# Altium schematic symbol library Resistors_HP.SchLib: 114 symbols
Pins are listed as number, name and electrical type; pins without a type are passive.

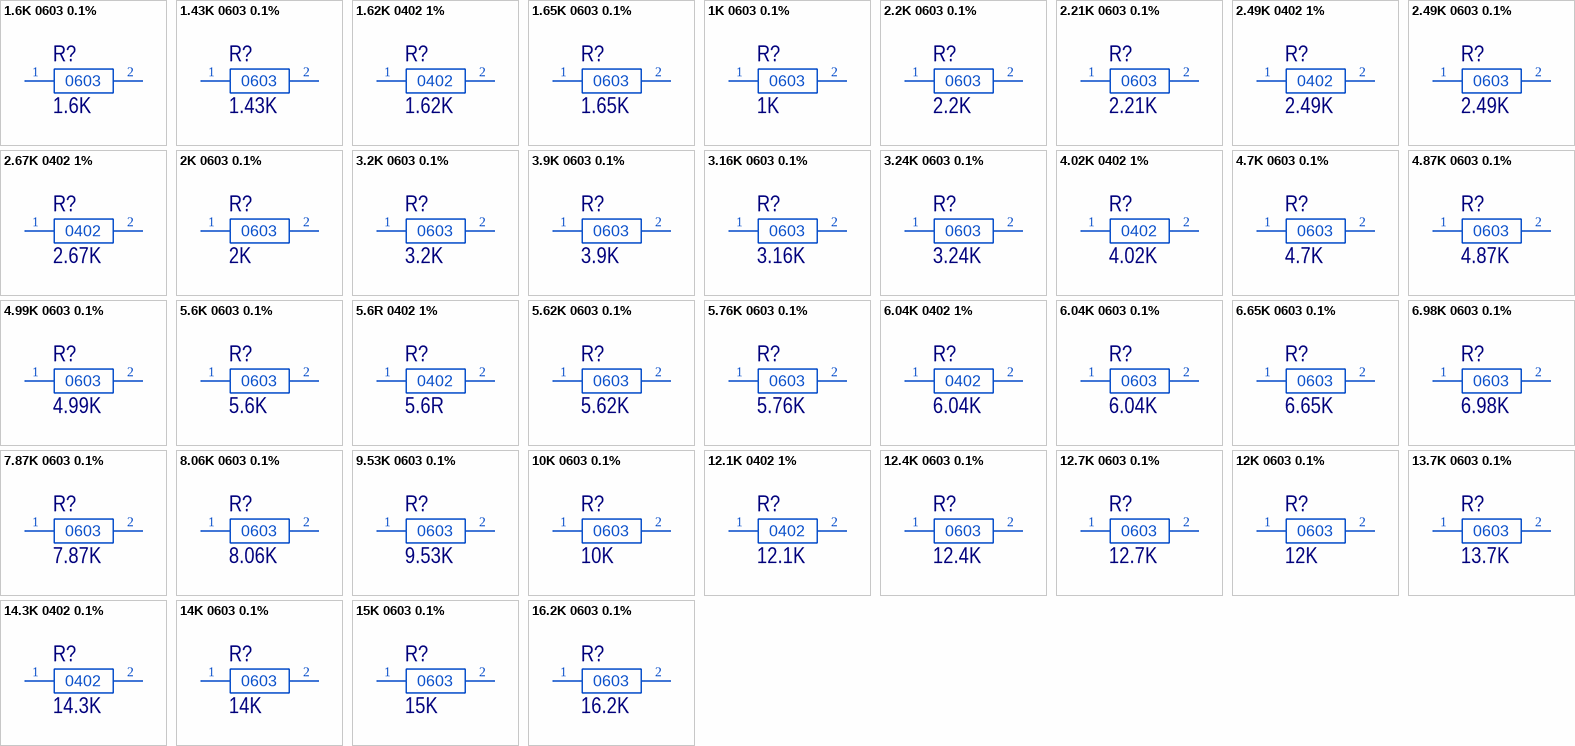
[diagram p0: symbols 1.6K 0603 0.1% to 16.2K 0603 0.1%]

## 1.6K 0603 0.1%
designator R?, comment 1.6K
RES 0603 1K6 0.1% 0.1W 25PPMK; PartNumber: ERA3AEB162V; Manufacturer: Panasonic; Voltage: 75 V; Temperature Coefficient: ± 25 ppm/°C; Marking: 162; Power Dissipation: 100 mW; ItemType: Resistor; ItemSubType: 0603; Note: Замена для RT0603FRE071K6L; Value: 1.6K; Tolerance: ± 0.1 %; Type: Thin Film; Mounting: SMD
footprint R0603HP_162 (SMD060316X08MM)
pins: 1, 2

## 1.43K 0603 0.1%
designator R?, comment 1.43K
RES 0603 1K43 0.1% 0.1W 25PPMK; PartNumber: ERA3AEB1431V; Manufacturer: Panasonic; Voltage: 75 V; Temperature Coefficient: ± 25 ppm/°C; Marking: 16B; Power Dissipation: 100 mW; ItemType: Resistor; ItemSubType: 0603; Note: Замена для RT0603FRE071K43L; Value: 1.43K; Tolerance: ± 0.1 %; Type: Thin Film; Mounting: SMD
footprint R0603HP_16B (SMD060316X08MM)
pins: 1, 2

## 1.62K 0402 1%
designator R?, comment 1.62K
RES 0402 1K62 1% 0.0625W 25PPMK; PartNumber: RT0402FRE071K62L; Manufacturer: Yageo; Voltage: 50 V; Temperature Coefficient: ± 50 ppm/°C; Power Dissipation: 62.5 mW; ItemType: Resistor; ItemSubType: 0402; Value: 1.62K; Tolerance: ± 1 %; Type: Thin Film; Mounting: SMD
footprint R0402HP (SMD040210X05MM)
footprint R0402HP_0.8 (SMD040210X05MM for BGA with 0.8mm pitch)
pins: 1, 2

## 1.65K 0603 0.1%
designator R?, comment 1.65K
RES 0603 1K65 0.1% 0.1W 25PPMK; PartNumber: ERA3AEB1651V; Manufacturer: Panasonic; Voltage: 75 V; Temperature Coefficient: ± 25 ppm/°C; Marking: 22B; Power Dissipation: 100 mW; ItemType: Resistor; ItemSubType: 0603; Note: Замена для RT0603FRE071K65L; Value: 1.65K; Tolerance: ± 0.1 %; Type: Thin Film; Mounting: SMD
footprint R0603HP_22B (SMD060316X08MM)
pins: 1, 2

## 1K 0603 0.1%
designator R?, comment 1K
RES 0603 1K 0.1% 0.1W 25PPMK; PartNumber: ERA3AEB102V; Manufacturer: Panasonic; AltManufacturer1: Viking; Voltage: 75 V; Temperature Coefficient: ± 25 ppm/°C; Marking: 01B; Alternative1: ARG03BTC1001; Power Dissipation: 100 mW; ItemType: Resistor; ItemSubType: 0603; Note: Замена для RT0603FRE071KL; Value: 1K; Tolerance: ± 0.1 %; Type: Thin Film; Mounting: SMD
footprint R0603HP_01B (SMD060316X08MM)
pins: 1, 2

## 2.2K 0603 0.1%
designator R?, comment 2.2K
RES 0603 2K2 0.1% 0.1W 25PPMK; PartNumber: ERA3AEB222V; Manufacturer: Panasonic; Voltage: 75 V; Temperature Coefficient: ± 25 ppm/°C; Marking: 222; Power Dissipation: 100 mW; ItemType: Resistor; ItemSubType: 0603; Note: Замена для RT0603FRE072K2L; Value: 2.2K; Tolerance: ± 0.1 %; Type: Thin Film; Mounting: SMD
footprint R0603HP_222 (SMD060316X08MM)
pins: 1, 2

## 2.21K 0603 0.1%
designator R?, comment 2.21K
RES 0603 2K21 0.1% 0.1W 25PPMK; PartNumber: ERA3AEB2211V; Manufacturer: Panasonic; Voltage: 75 V; Temperature Coefficient: ± 25 ppm/°C; Marking: 34B; Power Dissipation: 100 mW; ItemType: Resistor; ItemSubType: 0603; Note: Замена для RT0603FRE072K21L; Value: 2.21K; Tolerance: ± 0.1 %; Type: Thin Film; Mounting: SMD
footprint R0603HP_34B (SMD060316X08MM)
pins: 1, 2

## 2.49K 0402 1%
designator R?, comment 2.49K
RES 0402 2K49 1% 0.0625W 25PPMK; PartNumber: RT0402FRE072K49L; Manufacturer: Yageo; Voltage: 50 V; Temperature Coefficient: ± 50 ppm/°C; Power Dissipation: 62.5 mW; ItemType: Resistor; ItemSubType: 0402; Value: 2.49K; Tolerance: ± 1 %; Type: Thin Film; Mounting: SMD
footprint R0402HP (SMD040210X05MM)
footprint R0402HP_0.8 (SMD040210X05MM for BGA with 0.8mm pitch)
pins: 1, 2

## 2.49K 0603 0.1%
designator R?, comment 2.49K
RES 0603 2K49 0.1% 0.1W 25PPMK; PartNumber: ERA3AEB2491V; Manufacturer: Panasonic; Voltage: 75 V; Temperature Coefficient: ± 25 ppm/°C; Marking: 39B; Power Dissipation: 100 mW; ItemType: Resistor; ItemSubType: 0603; Note: Замена для RT0603FRE072K49L; Value: 2.49K; Tolerance: ± 0.1 %; Type: Thin Film; Mounting: SMD
footprint R0603HP_39B (SMD060316X08MM)
pins: 1, 2

## 2.67K 0402 1%
designator R?, comment 2.67K
RES 0402 2K67 1% 0.0625W 25PPMK; PartNumber: RT0402FRE072K67L; Manufacturer: Yageo; Voltage: 50 V; Temperature Coefficient: ± 50 ppm/°C; Power Dissipation: 62.5 mW; ItemType: Resistor; ItemSubType: 0402; Value: 2.67K; Tolerance: ± 1 %; Type: Thin Film; Mounting: SMD
footprint R0402HP (SMD040210X05MM)
footprint R0402HP_0.8 (SMD040210X05MM for BGA with 0.8mm pitch)
pins: 1, 2

## 2K 0603 0.1%
designator R?, comment 2K
RES 0603 2K 0.1% 0.1W 25PPMK; PartNumber: ERA3AEB202V; Manufacturer: Panasonic; AltManufacturer1: Viking; Voltage: 75 V; Temperature Coefficient: ± 25 ppm/°C; Marking: 30B; Alternative1: ARG03BTC2001; Power Dissipation: 100 mW; ItemType: Resistor; ItemSubType: 0603; Note: Замена для RT0603FRE072KL; Value: 2K; Tolerance: ± 0.1 %; Type: Thin Film; Mounting: SMD
footprint R0603HP_30B (SMD060316X08MM)
pins: 1, 2

## 3.2K 0603 0.1%
designator R?, comment 3.2K
RES 0603 3K2 0.1% 0.1W 25PPMK; PartNumber: TNPW06033K20BEEA; Manufacturer: Vishay; Voltage: 75 V; Temperature Coefficient: ± 25 ppm/°C; Marking: 3201; Power Dissipation: 210 mW; ItemType: Resistor; ItemSubType: 0603; Value: 3.2K; Tolerance: ± 0.1 %; Type: Thin Film; Mounting: SMD
footprint R0603HP_3201 (SMD060316X08MM)
pins: 1, 2

## 3.9K 0603 0.1%
designator R?, comment 3.9K
RES 0603 3K9 0.1% 0.1W 25PPMK; PartNumber: ERA3AEB392V; Manufacturer: Panasonic; Voltage: 75 V; Temperature Coefficient: ± 25 ppm/°C; Marking: 392; Power Dissipation: 100 mW; ItemType: Resistor; ItemSubType: 0603; Note: Замена для RT0603FRE073K9L; Value: 3.9K; Tolerance: ± 0.1 %; Type: Thin Film; Mounting: SMD
footprint R0603HP_392 (SMD060316X08MM)
pins: 1, 2

## 3.16K 0603 0.1%
designator R?, comment 3.16K
RES 0603 3K16 0.1% 0.1W 25PPMK; PartNumber: ERA3AEB3161V; Manufacturer: Panasonic; Voltage: 75 V; Temperature Coefficient: ± 25 ppm/°C; Marking: 49B; Power Dissipation: 100 mW; ItemType: Resistor; ItemSubType: 0603; Note: Замена для RT0603FRE073K16L; Value: 3.16K; Tolerance: ± 0.1 %; Type: Thin Film; Mounting: SMD
footprint R0603HP_49B (SMD060316X08MM)
pins: 1, 2

## 3.24K 0603 0.1%
designator R?, comment 3.24K
RES 0603 3K24 0.1% 0.1W 25PPMK; PartNumber: ERA3AEB3241V; Manufacturer: Panasonic; Voltage: 75 V; Temperature Coefficient: ± 25 ppm/°C; Marking: 50B; Power Dissipation: 100 mW; ItemType: Resistor; ItemSubType: 0603; Note: Замена для RT0603FRE073K24L; Value: 3.24K; Tolerance: ± 0.1 %; Type: Thin Film; Mounting: SMD
footprint R0603HP_50B (SMD060316X08MM)
pins: 1, 2

## 4.02K 0402 1%
designator R?, comment 4.02K
RES 0402 4K02 1% 0.0625W 25PPMK; PartNumber: RT0402FRE074K02L; Manufacturer: Yageo; Voltage: 50 V; Temperature Coefficient: ± 50 ppm/°C; Power Dissipation: 62.5 mW; ItemType: Resistor; ItemSubType: 0402; Value: 4.02K; Tolerance: ± 1 %; Type: Thin Film; Mounting: SMD
footprint R0402HP (SMD040210X05MM)
footprint R0402HP_0.8 (SMD040210X05MM for BGA with 0.8mm pitch)
pins: 1, 2

## 4.7K 0603 0.1%
designator R?, comment 4.7K
RES 0603 4K7 0.1% 0.1W 25PPMK; PartNumber: ERA3AEB472V; Manufacturer: Panasonic; Voltage: 75 V; Temperature Coefficient: ± 25 ppm/°C; Marking: 472; Power Dissipation: 100 mW; ItemType: Resistor; ItemSubType: 0603; Note: Замена для RT0603FRE074K7L; Value: 4.7K; Tolerance: ± 0.1 %; Type: Thin Film; Mounting: SMD
footprint R0603HP_472 (SMD060316X08MM)
pins: 1, 2

## 4.87K 0603 0.1%
designator R?, comment 4.87K
RES 0603 4K87 0.1% 0.1W 25PPMK; PartNumber: ERA3AEB4871V; Manufacturer: Panasonic; Voltage: 75 V; Temperature Coefficient: ± 25 ppm/°C; Marking: 67B; Power Dissipation: 100 mW; ItemType: Resistor; ItemSubType: 0603; Note: Замена для RT0603FRE074K87L; Value: 4.87K; Tolerance: ± 0.1 %; Type: Thin Film; Mounting: SMD
footprint R0603HP_67B (SMD060316X08MM)
pins: 1, 2

## 4.99K 0603 0.1%
designator R?, comment 4.99K
RES 0603 4K99 0.1% 0.1W 25PPMK; PartNumber: ERA3AEB4991V; Manufacturer: Panasonic; Voltage: 75 V; Temperature Coefficient: ± 25 ppm/°C; Marking: 68B; Power Dissipation: 100 mW; ItemType: Resistor; ItemSubType: 0603; Note: Замена для RT0603FRE074K99L; Value: 4.99K; Tolerance: ± 0.1 %; Type: Thin Film; Mounting: SMD
footprint R0603HP_68B (SMD060316X08MM)
pins: 1, 2

## 5.6K 0603 0.1%
designator R?, comment 5.6K
RES 0603 5K6 0.1% 0.1W 25PPMK; PartNumber: ERA3AEB562V; Manufacturer: Panasonic; Voltage: 75 V; Temperature Coefficient: ± 25 ppm/°C; Marking: 562; Power Dissipation: 100 mW; ItemType: Resistor; ItemSubType: 0603; Note: Замена для RT0603FRE075K6L; Value: 5.6K; Tolerance: ± 0.1 %; Type: Thin Film; Mounting: SMD
footprint R0603HP_562 (SMD060316X08MM)
pins: 1, 2

## 5.6R 0402 1%
designator R?, comment 5.6R
RES 0402 5R6 1% 0.0625W 25PPMK; PartNumber: RT0402FRE075R6L; Manufacturer: Yageo; Voltage: 50 V; Temperature Coefficient: ± 50 ppm/°C; Power Dissipation: 62.5 mW; ItemType: Resistor; ItemSubType: 0402; Value: 5.6R; Tolerance: ± 1 %; Type: Thin Film; Mounting: SMD
footprint R0402HP (SMD040210X05MM)
footprint R0402HP_0.8 (SMD040210X05MM for BGA with 0.8mm pitch)
pins: 1, 2

## 5.62K 0603 0.1%
designator R?, comment 5.62K
RES 0603 5K62 0.1% 0.1W 25PPMK; PartNumber: ERA3AEB5621V; Manufacturer: Panasonic; Voltage: 75 V; Temperature Coefficient: ± 25 ppm/°C; Marking: 73B; Power Dissipation: 100 mW; ItemType: Resistor; ItemSubType: 0603; Note: Замена для RT0603FRE075K62L; Value: 5.62K; Tolerance: ± 0.1 %; Type: Thin Film; Mounting: SMD
footprint R0603HP_73B (SMD060316X08MM)
pins: 1, 2

## 5.76K 0603 0.1%
designator R?, comment 5.76K
RES 0603 5K76 0.1% 0.1W 25PPMK; PartNumber: ERA3AEB5761V; Manufacturer: Panasonic; Voltage: 75 V; Temperature Coefficient: ± 25 ppm/°C; Marking: 74B; Power Dissipation: 100 mW; ItemType: Resistor; ItemSubType: 0603; Note: Замена для RT0603FRE075K76L; Value: 5.76K; Tolerance: ± 0.1 %; Type: Thin Film; Mounting: SMD
footprint R0603HP_74B (SMD060316X08MM)
pins: 1, 2

## 6.04K 0402 1%
designator R?, comment 6.04K
RES 0402 6K04 1% 0.0625W 25PPMK; PartNumber: RT0402FRE076K04L; Manufacturer: Yageo; Voltage: 50 V; Temperature Coefficient: ± 50 ppm/°C; Power Dissipation: 62.5 mW; ItemType: Resistor; ItemSubType: 0402; Value: 6.04K; Tolerance: ± 1 %; Type: Thin Film; Mounting: SMD
footprint R0402HP (SMD040210X05MM)
footprint R0402HP_0.8 (SMD040210X05MM for BGA with 0.8mm pitch)
pins: 1, 2

## 6.04K 0603 0.1%
designator R?, comment 6.04K
RES 0603 6K04 0.1% 0.1W 25PPMK; PartNumber: ERA3AEB6041V; Manufacturer: Panasonic; Voltage: 75 V; Temperature Coefficient: ± 25 ppm/°C; Marking: 76B; Power Dissipation: 100 mW; ItemType: Resistor; ItemSubType: 0603; Note: Замена для RT0603FRE076K04L; Value: 6.04K; Tolerance: ± 0.1 %; Type: Thin Film; Mounting: SMD
footprint R0603HP_76B (SMD060316X08MM)
pins: 1, 2

## 6.65K 0603 0.1%
designator R?, comment 6.65K
RES 0603 6K65 0.1% 0.1W 25PPMK; PartNumber: ERA3AEB6651V; Manufacturer: Panasonic; Voltage: 75 V; Temperature Coefficient: ± 25 ppm/°C; Marking: 80B; Power Dissipation: 100 mW; ItemType: Resistor; ItemSubType: 0603; Value: 6.65K; Tolerance: ± 0.1 %; Type: Thin Film; Mounting: SMD
footprint R0603HP_80B (SMD060316X08MM)
pins: 1, 2

## 6.98K 0603 0.1%
designator R?, comment 6.98K
RES 0603 6K98 0.1% 0.1W 25PPMK; PartNumber: ERA3AEB6981V; Manufacturer: Panasonic; Voltage: 75 V; Temperature Coefficient: ± 25 ppm/°C; Marking: 82B; Power Dissipation: 100 mW; ItemType: Resistor; ItemSubType: 0603; Note: Замена для RT0603FRE076K98L; Value: 6.98K; Tolerance: ± 0.1 %; Type: Thin Film; Mounting: SMD
footprint R0603HP_82B (SMD060316X08MM)
pins: 1, 2

## 7.87K 0603 0.1%
designator R?, comment 7.87K
RES 0603 7K87 0.1% 0.1W 25PPMK; PartNumber: ERA3AEB7871V; Manufacturer: Panasonic; Voltage: 75 V; Temperature Coefficient: ± 25 ppm/°C; Marking: 87B; Power Dissipation: 100 mW; ItemType: Resistor; ItemSubType: 0603; Note: Замена для RT0603FRE077K87L; Value: 7.87K; Tolerance: ± 0.1 %; Type: Thin Film; Mounting: SMD
footprint R0603HP_87B (SMD060316X08MM)
pins: 1, 2

## 8.06K 0603 0.1%
designator R?, comment 8.06K
RES 0603 8K06 0.1% 0.1W 25PPMK; PartNumber: ERA3AEB8061V; Manufacturer: Panasonic; Voltage: 75 V; Temperature Coefficient: ± 25 ppm/°C; Marking: 88B; Power Dissipation: 100 mW; ItemType: Resistor; ItemSubType: 0603; Note: Замена для RT0603FRE078K06L; Value: 8.06K; Tolerance: ± 0.1 %; Type: Thin Film; Mounting: SMD
footprint R0603HP_88B (SMD060316X08MM)
pins: 1, 2

## 9.53K 0603 0.1%
designator R?, comment 9.53K
RES 0603 9K53 0.1% 0.1W 25PPMK; PartNumber: ERA3AEB9531V; Manufacturer: Panasonic; Voltage: 75 V; Temperature Coefficient: ± 25 ppm/°C; Marking: 95B; Power Dissipation: 100 mW; ItemType: Resistor; ItemSubType: 0603; Note: Замена для RT0603FRE079K53L; Value: 9.53K; Tolerance: ± 0.1 %; Type: Thin Film; Mounting: SMD
footprint R0603HP_95B (SMD060316X08MM)
pins: 1, 2

## 10K 0603 0.1%
designator R?, comment 10K
RES 0603 10K 0.1% 0.1W 25PPMK; PartNumber: ERA3AEB103V; Manufacturer: Panasonic; Voltage: 75 V; Temperature Coefficient: ± 25 ppm/°C; Marking: 01C; Power Dissipation: 100 mW; ItemType: Resistor; ItemSubType: 0603; Note: Замена для RT0603FRE0710KL; Value: 10K; Tolerance: ± 0.1 %; Type: Thin Film; Mounting: SMD
footprint R0603HP_01C (SMD060316X08MM)
pins: 1, 2

## 12.1K 0402 1%
designator R?, comment 12.1K
RES 0402 12K1 1% 0.0625W 25PPMK; PartNumber: RT0402FRE0712K1L; Manufacturer: Yageo; Voltage: 50 V; Temperature Coefficient: ± 50 ppm/°C; Power Dissipation: 62.5 mW; ItemType: Resistor; ItemSubType: 0402; Value: 12.1K; Tolerance: ± 1 %; Type: Thin Film; Mounting: SMD
footprint R0402HP (SMD040210X05MM)
footprint R0402HP_0.8 (SMD040210X05MM for BGA with 0.8mm pitch)
pins: 1, 2

## 12.4K 0603 0.1%
designator R?, comment 12.4K
RES 0603 12K4 0.1% 0.1W 25PPMK; PartNumber: ERA3AEB1242V; Manufacturer: Panasonic; Voltage: 75 V; Temperature Coefficient: ± 25 ppm/°C; Marking: 10C; Power Dissipation: 100 mW; ItemType: Resistor; ItemSubType: 0603; Note: Замена для RT0603FRE0712K4L; Value: 12.4K; Tolerance: ± 0.1 %; Type: Thin Film; Mounting: SMD
footprint R0603HP_10C (SMD060316X08MM)
pins: 1, 2

## 12.7K 0603 0.1%
designator R?, comment 12.7K
RES 0603 12K7 0.1% 0.1W 25PPMK; PartNumber: ERA3AEB1272V; Manufacturer: Panasonic; Voltage: 75 V; Temperature Coefficient: ± 25 ppm/°C; Marking: 11C; Power Dissipation: 100 mW; ItemType: Resistor; ItemSubType: 0603; Note: Замена для RT0603FRE0712K7L; Value: 12.7K; Tolerance: ± 0.1 %; Type: Thin Film; Mounting: SMD
footprint R0603HP_11C (SMD060316X08MM)
pins: 1, 2

## 12K 0603 0.1%
designator R?, comment 12K
RES 0603 12K 0.1% 0.1W 25PPMK; PartNumber: ERA3AEB123V; Manufacturer: Panasonic; Voltage: 75 V; Temperature Coefficient: ± 25 ppm/°C; Marking: 123; Power Dissipation: 100 mW; ItemType: Resistor; ItemSubType: 0603; Note: Замена для RT0603FRE0712KL; Value: 12K; Tolerance: ± 0.1 %; Type: Thin Film; Mounting: SMD
footprint R0603HP_123 (SMD060316X08MM)
pins: 1, 2

## 13.7K 0603 0.1%
designator R?, comment 13.7K
RES 0603 13K7 0.1% 0.1W 25PPMK; PartNumber: ERA3AEB1372V; Manufacturer: Panasonic; Voltage: 75 V; Temperature Coefficient: ± 25 ppm/°C; Marking: 14C; Power Dissipation: 100 mW; ItemType: Resistor; ItemSubType: 0603; Note: Замена для RT0603FRE0713K7L; Value: 13.7K; Tolerance: ± 0.1 %; Type: Thin Film; Mounting: SMD
footprint R0603HP_14C (SMD060316X08MM)
pins: 1, 2

## 14.3K 0402 0.1%
designator R?, comment 14.3K
RES 0402 14K3 0.1% 0.0625W 25PPMK; PartNumber: ERA2AEB1432X; Manufacturer: Panasonic; Voltage: 25 V; Temperature Coefficient: ± 25 ppm/°C; Power Dissipation: 62.5 mW; ItemType: Resistor; ItemSubType: 0402; Value: 14.3K; Tolerance: ± 0.1 %; Type: Thin Film; Mounting: SMD
footprint R0402HP (SMD040210X05MM)
footprint R0402HP_0.8 (SMD040210X05MM for BGA with 0.8mm pitch)
pins: 1, 2

## 14K 0603 0.1%
designator R?, comment 14K
RES 0603 14K 0.1% 0.1W 25PPMK; PartNumber: ERA3AEB1402V; Manufacturer: Panasonic; Voltage: 75 V; Temperature Coefficient: ± 25 ppm/°C; Marking: 15C; Power Dissipation: 100 mW; ItemType: Resistor; ItemSubType: 0603; Note: Замена для RT0603FRE0714KL; Value: 14K; Tolerance: ± 0.1 %; Type: Thin Film; Mounting: SMD
footprint R0603HP_15C (SMD060316X08MM)
pins: 1, 2

## 15K 0603 0.1%
designator R?, comment 15K
RES 0603 15K 0.1% 0.1W 25PPMK; PartNumber: ERA3AEB153V; Manufacturer: Panasonic; Voltage: 75 V; Temperature Coefficient: ± 25 ppm/°C; Marking: 18C or 153; Power Dissipation: 100 mW; ItemType: Resistor; ItemSubType: 0603; Note: Замена для RT0603FRE0715KL; Value: 15K; Tolerance: ± 0.1 %; Type: Thin Film; Mounting: SMD
footprint R0603HP_18C (SMD060316X08MM)
pins: 1, 2

## 16.2K 0603 0.1%
designator R?, comment 16.2K
RES 0603 16K2 0.1% 0.1W 25PPMK; PartNumber: ERA3AEB1622V; Manufacturer: Panasonic; Voltage: 75 V; Temperature Coefficient: ± 25 ppm/°C; Marking: 21C; Power Dissipation: 100 mW; ItemType: Resistor; ItemSubType: 0603; Note: Замена для RT0603FRE0716K2L; Value: 16.2K; Tolerance: ± 0.1 %; Type: Thin Film; Mounting: SMD
footprint R0603HP_21C (SMD060316X08MM)
pins: 1, 2

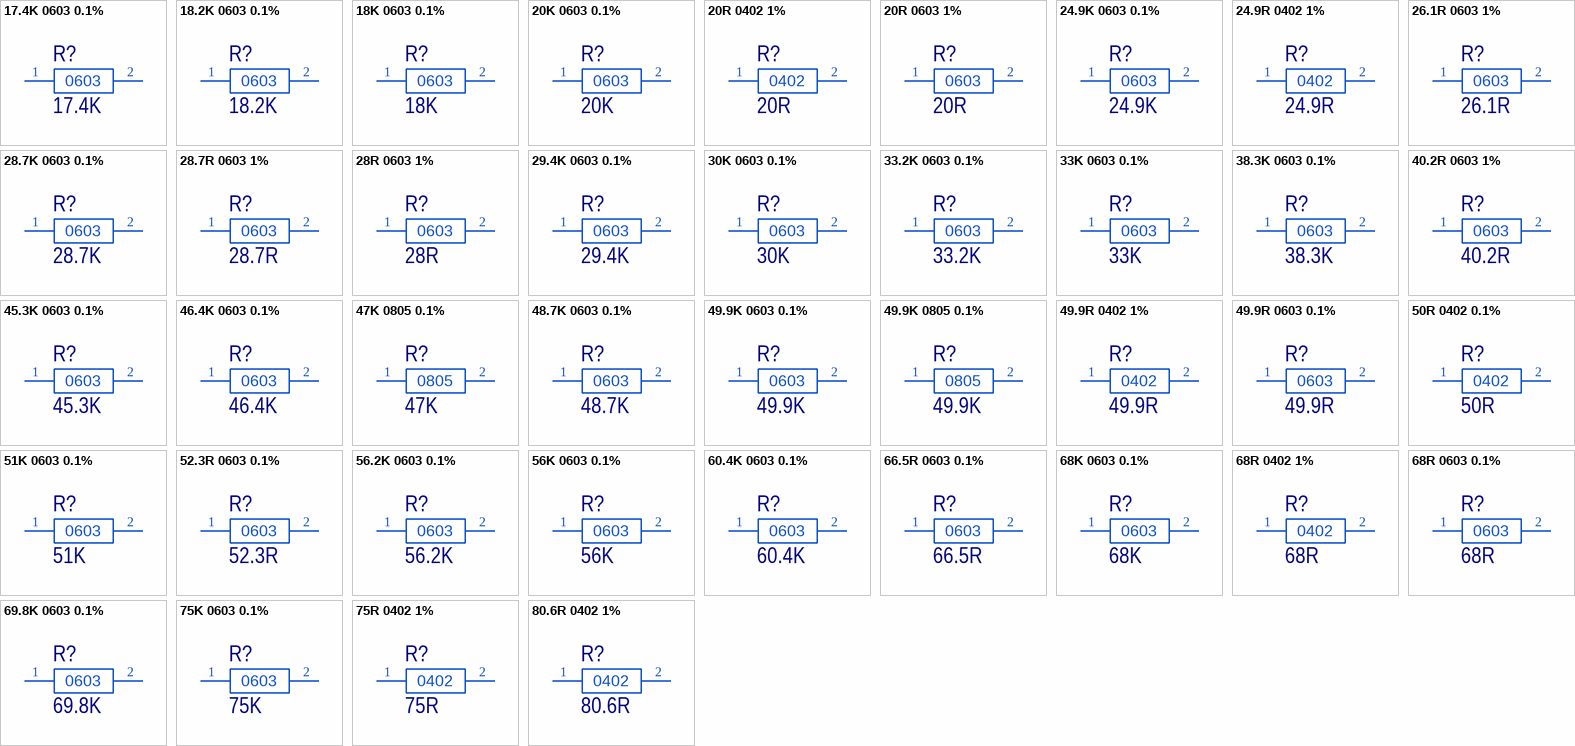
[diagram p1: symbols 17.4K 0603 0.1% to 80.6R 0402 1%]

## 17.4K 0603 0.1%
designator R?, comment 17.4K
RES 0603 17K4 0.1% 0.1W 25PPMK; PartNumber: ERA3AEB1742V; Manufacturer: Panasonic; Voltage: 75 V; Temperature Coefficient: ± 25 ppm/°C; Marking: 24C; Power Dissipation: 100 mW; ItemType: Resistor; ItemSubType: 0603; Note: Замена для RT0603FRE0717K4L; Value: 17.4K; Tolerance: ± 0.1 %; Type: Thin Film; Mounting: SMD
footprint R0603HP_24C (SMD060316X08MM)
pins: 1, 2

## 18.2K 0603 0.1%
designator R?, comment 18.2K
RES 0603 18K2 0.1% 0.1W 25PPMK; PartNumber: ERA3AEB1822V; Manufacturer: Panasonic; AltManufacturer1: Vishay; Voltage: 75 V; Temperature Coefficient: ± 25 ppm/°C; Marking: 26C; Alternative1: TNPW060318K2BEEA; Power Dissipation: 125 mW; ItemType: Resistor; ItemSubType: 0603; Note: Замена для RT0603FRE0718K2L; Value: 18.2K; Tolerance: ± 0.1 %; Type: Thin Film; Mounting: SMD
footprint R0603HP_26C (SMD060316X08MM)
pins: 1, 2

## 18K 0603 0.1%
designator R?, comment 18K
RES 0603 18K 0.1% 0.1W 25PPMK; PartNumber: ERA3AEB183V; Manufacturer: Panasonic; Voltage: 75 V; Temperature Coefficient: ± 25 ppm/°C; Marking: 183; Power Dissipation: 100 mW; ItemType: Resistor; ItemSubType: 0603; Note: Замена для RT0603FRE0718KL; Value: 18K; Tolerance: ± 0.1 %; Type: Thin Film; Mounting: SMD
footprint R0603HP_183 (SMD060316X08MM)
pins: 1, 2

## 20K 0603 0.1%
designator R?, comment 20K
RES 0603 20K 0.1% 0.1W 25PPMK; PartNumber: ERA3AEB203V; Manufacturer: Panasonic; Voltage: 75 V; Temperature Coefficient: ± 25 ppm/°C; Marking: 30C or 203; Power Dissipation: 100 mW; ItemType: Resistor; ItemSubType: 0603; Note: Замена для RT0603FRE0720KL; Value: 20K; Tolerance: ± 0.1 %; Type: Thin Film; Mounting: SMD
footprint R0603HP_30C (SMD060316X08MM)
pins: 1, 2

## 20R 0402 1%
designator R?, comment 20R
RES 0402 20R 1% 0.0625W 25PPMK; PartNumber: RT0402FRE0720RL; Manufacturer: Yageo; Voltage: 50 V; Temperature Coefficient: ± 50 ppm/°C; Power Dissipation: 62.5 mW; ItemType: Resistor; ItemSubType: 0402; Value: 20R; Tolerance: ± 1 %; Type: Thin Film; Mounting: SMD
footprint R0402HP (SMD040210X05MM)
footprint R0402HP_0.8 (SMD040210X05MM for BGA with 0.8mm pitch)
pins: 1, 2

## 20R 0603 1%
designator R?, comment 20R
RES 0603 20R 1% 0.1W 25PPMK; PartNumber: RT0603FRE0720RL; Manufacturer: Yageo; Voltage: 75 V; Temperature Coefficient: ± 50 ppm/°C; Marking: 30X; Power Dissipation: 100 mW; ItemType: Resistor; ItemSubType: 0603; Value: 20R; Tolerance: ± 1 %; Type: Thin Film; Mounting: SMD
footprint R0603HP_30X (SMD060316X08MM)
pins: 1, 2

## 24.9K 0603 0.1%
designator R?, comment 24.9K
RES 0603 24K9 0.1% 0.1W 25PPMK; PartNumber: ERA3AEB2492V; Manufacturer: Panasonic; AltManufacturer1: Vishay; Voltage: 75 V; Temperature Coefficient: ± 25 ppm/°C; Marking: 39C; Alternative1: TNPW060324K9BEEA; Power Dissipation: 100 mW; ItemType: Resistor; ItemSubType: 0603; Note: Замена для RT0603FRE0724K9L; Value: 24.9K; Tolerance: ± 0.1 %; Type: Thin Film; Mounting: SMD
footprint R0603HP_39C (SMD060316X08MM)
pins: 1, 2

## 24.9R 0402 1%
designator R?, comment 24.9R
RES 0402 24R9 1% 0.0625W 25PPMK; PartNumber: RT0402FRE0724R9L; Manufacturer: Yageo; Voltage: 50 V; Temperature Coefficient: ± 50 ppm/°C; Power Dissipation: 62.5 mW; ItemType: Resistor; ItemSubType: 0402; Value: 24.9R; Tolerance: ± 1 %; Type: Thin Film; Mounting: SMD
footprint R0402HP (SMD040210X05MM)
footprint R0402HP_0.8 (SMD040210X05MM for BGA with 0.8mm pitch)
pins: 1, 2

## 26.1R 0603 1%
designator R?, comment 26.1R
RES 0603 26R1 1% 0.1W 25PPMK; PartNumber: RT0603FRE0726R1L; Manufacturer: Yageo; Voltage: 75 V; Temperature Coefficient: ± 50 ppm/°C; Marking: 41X; Power Dissipation: 100 mW; ItemType: Resistor; ItemSubType: 0603; Value: 26.1R; Tolerance: ± 1 %; Type: Thin Film; Mounting: SMD
footprint R0603HP_41X (SMD060316X08MM)
pins: 1, 2

## 28.7K 0603 0.1%
designator R?, comment 28.7K
RES 0603 28K7 0.1% 0.1W 25PPMK; PartNumber: ERA3AEB2872V; Manufacturer: Panasonic; Voltage: 75 V; Temperature Coefficient: ± 25 ppm/°C; Marking: 45C; Power Dissipation: 100 mW; ItemType: Resistor; ItemSubType: 0603; Note: Замена для RT0603FRE0728K7L; Value: 28.7K; Tolerance: ± 0.1 %; Type: Thin Film; Mounting: SMD
footprint R0603HP_45C (SMD060316X08MM)
pins: 1, 2

## 28.7R 0603 1%
designator R?, comment 28.7R
RES 0603 28R7 1% 0.1W 25PPMK; PartNumber: RT0603FRE0728R7L; Manufacturer: Yageo; Voltage: 75 V; Temperature Coefficient: ± 50 ppm/°C; Marking: 45X; Power Dissipation: 100 mW; ItemType: Resistor; ItemSubType: 0603; Value: 28.7R; Tolerance: ± 1 %; Type: Thin Film; Mounting: SMD
footprint R0603HP_45X (SMD060316X08MM)
pins: 1, 2

## 28R 0603 1%
designator R?, comment 28R
RES 0603 28R 1% 0.1W 25PPMK; PartNumber: RT0603FRE0728RL; Manufacturer: Yageo; Voltage: 75 V; Temperature Coefficient: ± 50 ppm/°C; Marking: 44X; Power Dissipation: 100 mW; ItemType: Resistor; ItemSubType: 0603; Value: 28R; Tolerance: ± 1 %; Type: Thin Film; Mounting: SMD
footprint R0603HP_44X (SMD060316X08MM)
pins: 1, 2

## 29.4K 0603 0.1%
designator R?, comment 29.4K
RES 0603 29K4 0.1% 0.1W 25PPMK; PartNumber: ERA3AEB2942V; Manufacturer: Panasonic; Voltage: 75 V; Temperature Coefficient: ± 25 ppm/°C; Marking: 46C; Power Dissipation: 100 mW; ItemType: Resistor; ItemSubType: 0603; Note: Замена для RT0603FRE0729K4L; Value: 29.4K; Tolerance: ± 0.1 %; Type: Thin Film; Mounting: SMD
footprint R0603HP_46C (SMD060316X08MM)
pins: 1, 2

## 30K 0603 0.1%
designator R?, comment 30K
RES 0603 30K 0.1% 0.1W 25PPMK; PartNumber: ERA3AEB303V; Manufacturer: Panasonic; Voltage: 75 V; Temperature Coefficient: ± 25 ppm/°C; Marking: 303; Power Dissipation: 100 mW; ItemType: Resistor; ItemSubType: 0603; Note: Замена для RT0603FRE0730KL; Value: 30K; Tolerance: ± 0.1 %; Type: Thin Film; Mounting: SMD
footprint R0603HP_303 (SMD060316X08MM)
pins: 1, 2

## 33.2K 0603 0.1%
designator R?, comment 33.2K
RES 0603 33K2 0.1% 0.1W 25PPMK; PartNumber: ERA3AEB3322V; Manufacturer: Panasonic; AltManufacturer1: Vishay; Voltage: 75 V; Temperature Coefficient: ± 25 ppm/°C; Marking: 51C; Alternative1: TNPW060333K2BEEA; Power Dissipation: 100 mW; ItemType: Resistor; ItemSubType: 0603; Note: Замена для RT0603FRE0733K2L; Value: 33.2K; Tolerance: ± 0.1 %; Type: Thin Film; Mounting: SMD
footprint R0603HP_51C (SMD060316X08MM)
pins: 1, 2

## 33K 0603 0.1%
designator R?, comment 33K
RES 0603 33K 0.1% 0.1W 25PPMK; PartNumber: ERA3AEB333V; Manufacturer: Panasonic; Voltage: 75 V; Temperature Coefficient: ± 25 ppm/°C; Marking: 333; Power Dissipation: 100 mW; ItemType: Resistor; ItemSubType: 0603; Note: Замена для RT0603FRE0733KL; Value: 33K; Tolerance: ± 0.1 %; Type: Thin Film; Mounting: SMD
footprint R0603HP_333 (SMD060316X08MM)
pins: 1, 2

## 38.3K 0603 0.1%
designator R?, comment 38.3K
RES 0603 38K3 0.1% 0.1W 25PPMK; PartNumber: ERA3AEB3832V; Manufacturer: Panasonic; Voltage: 75 V; Temperature Coefficient: ± 25 ppm/°C; Marking: 57C; Power Dissipation: 100 mW; ItemType: Resistor; ItemSubType: 0603; Note: Замена для RT0603FRE0738K3L; Value: 38.3K; Tolerance: ± 0.1 %; Type: Thin Film; Mounting: SMD
footprint R0603HP_57C (SMD060316X08MM)
pins: 1, 2

## 40.2R 0603 1%
designator R?, comment 40.2R
RES 0603 40R2 1% 0.1W 25PPMK; PartNumber: RT0603FRE0740R2L; Manufacturer: Yageo; Voltage: 75 V; Temperature Coefficient: ± 50 ppm/°C; Marking: 59X; Power Dissipation: 100 mW; ItemType: Resistor; ItemSubType: 0603; Value: 40.2R; Tolerance: ± 1 %; Type: Thin Film; Mounting: SMD
footprint R0603HP_59X (SMD060316X08MM)
pins: 1, 2

## 45.3K 0603 0.1%
designator R?, comment 45.3K
RES 0603 45K3 0.1% 0.1W 25PPMK; PartNumber: ERA3AEB4532V; Manufacturer: Panasonic; Voltage: 75 V; Temperature Coefficient: ± 25 ppm/°C; Marking: 64C; Power Dissipation: 100 mW; ItemType: Resistor; ItemSubType: 0603; Note: Замена для RT0603FRE0745K3L; Value: 45.3K; Tolerance: ± 0.1 %; Type: Thin Film; Mounting: SMD
footprint R0603HP_64C (SMD060316X08MM)
pins: 1, 2

## 46.4K 0603 0.1%
designator R?, comment 46.4K
RES 0603 46K4 0.1% 0.1W 25PPMK; PartNumber: ERA3AEB4642V; Manufacturer: Panasonic; Voltage: 75 V; Temperature Coefficient: ± 25 ppm/°C; Marking: 65C; Power Dissipation: 100 mW; ItemType: Resistor; ItemSubType: 0603; Note: Замена для RT0603FRE0746K4L; Value: 46.4K; Tolerance: ± 0.1 %; Type: Thin Film; Mounting: SMD
footprint R0603HP_65C (SMD060316X08MM)
pins: 1, 2

## 47K 0805 0.1%
designator R?, comment 47K
RES 0805 47K 0.1% 0.125W 25PPMK; PartNumber: ERA-6AEB470V; Manufacturer: Panasonic; Voltage: 75 V; Temperature Coefficient: ± 25 ppm/°C; Marking: 4702; Power Dissipation: 125 mW; ItemType: Resistor; ItemSubType: 0805; Value: 47K; Tolerance: ± 0.1 %; Type: Thin Film; Mounting: SMD
footprint R0805HP_473 (Resistor 0805)
pins: 1, 2

## 48.7K 0603 0.1%
designator R?, comment 48.7K
RES 0603 48K7 0.1% 0.1W 25PPMK; PartNumber: ERA3AEB4872V; Manufacturer: Panasonic; Voltage: 75 V; Temperature Coefficient: ± 25 ppm/°C; Marking: 67C; Power Dissipation: 100 mW; ItemType: Resistor; ItemSubType: 0603; Note: Замена для RT0603FRE0748K7L; Value: 48.7K; Tolerance: ± 0.1 %; Type: Thin Film; Mounting: SMD
footprint R0603HP_67C (SMD060316X08MM)
pins: 1, 2

## 49.9K 0603 0.1%
designator R?, comment 49.9K
RES 0603 49K9 0.1% 0.1W 25PPMK; PartNumber: ERA3AEB4992V; Manufacturer: Panasonic; AltManufacturer1: Vishay; Voltage: 75 V; Temperature Coefficient: ± 25 ppm/°C; Marking: 68C; Alternative1: TNPW060349K9BEEA; Power Dissipation: 100 mW; ItemType: Resistor; ItemSubType: 0603; Note: Замена для RT0603FRE0749K9L; Value: 49.9K; Tolerance: ± 0.1 %; Type: Thin Film; Mounting: SMD
footprint R0603HP_68C (SMD060316X08MM)
pins: 1, 2

## 49.9K 0805 0.1%
designator R?, comment 49.9K
RES 0805 49K9 0.1% 0.125W 25PPMK; PartNumber: ERA-6AEB4992V; Manufacturer: Panasonic; Voltage: 75 V; Temperature Coefficient: ± 25 ppm/°C; Marking: 68C or 4992; Power Dissipation: 125 mW; ItemType: Resistor; ItemSubType: 0805; Value: 49.9K; Tolerance: ± 0.1 %; Type: Thin Film; Mounting: SMD
footprint R0805HP_68C (Resistor 0805)
pins: 1, 2

## 49.9R 0402 1%
designator R?, comment 49.9R
RES 0402 49R9 1% 0.0625W 25PPMK; PartNumber: RT0402FRE0749R9L; Manufacturer: Yageo; Voltage: 50 V; Temperature Coefficient: ± 50 ppm/°C; Power Dissipation: 62.5 mW; ItemType: Resistor; ItemSubType: 0402; Value: 49.9R; Tolerance: ± 1 %; Type: Thin Film; Mounting: SMD
footprint R0402HP (SMD040210X05MM)
footprint R0402HP_0.8 (SMD040210X05MM for BGA with 0.8mm pitch)
pins: 1, 2

## 49.9R 0603 0.1%
designator R?, comment 49.9R
RES 0603 49R9 0.1% 0.1W 25PPMK; PartNumber: ERA3AEB49R9V; Manufacturer: Panasonic; AltManufacturer1: Vishay; Voltage: 75 V; Temperature Coefficient: ± 25 ppm/°C; Marking: 68X; Alternative1: TNPW060349R9BEEA; Power Dissipation: 100 mW; ItemType: Resistor; ItemSubType: 0603; Note: Замена для RT0603FRE0749R9L; Value: 49.9R; Tolerance: ± 0.1 %; Type: Thin Film; Mounting: SMD
footprint R0603HP_68X (SMD060316X08MM)
pins: 1, 2

## 50R 0402 0.1%
designator R?, comment 50R
RES 0402 50R 1% 0.05W 25PPMK; PartNumber: FC0402E50R0BST1; Manufacturer: Vishay; Tolerance: ± 0.1 %; Voltage: 30 V; Temperature Coefficient: ± 25 ppm/°C; Power Dissipation: 50 mW; ItemType: Resistor; ItemSubType: RF 0402; Value: 50R; Type: Thin Film; Mounting: SMD
footprint R0402RF (SMD040210X05MM)
pins: 1, 2
text: 0402

## 51K 0603 0.1%
designator R?, comment 51K
RES 0603 51K 0.1% 0.1W 25PPMK; PartNumber: ERA3AEB513V; Manufacturer: Panasonic; Voltage: 75 V; Temperature Coefficient: ± 25 ppm/°C; Marking: 513; Power Dissipation: 100 mW; ItemType: Resistor; ItemSubType: 0603; Note: Замена для RT0603FRE0751KL; Value: 51K; Tolerance: ± 0.1 %; Type: Thin Film; Mounting: SMD
footprint R0603HP_513 (SMD060316X08MM)
pins: 1, 2

## 52.3R 0603 0.1%
designator R?, comment 52.3R
RES 0603 52R3 0.1% 0.1W 25PPMK; PartNumber: ERA3AEB52R3V; Manufacturer: Panasonic; Voltage: 75 V; Temperature Coefficient: ± 25 ppm/°C; Marking: 70X; Power Dissipation: 100 mW; ItemType: Resistor; ItemSubType: 0603; Note: Замена для RT0603FRE0752R3L; Value: 52.3R; Tolerance: ± 0.1 %; Type: Thin Film; Mounting: SMD
footprint R0603HP_70X (SMD060316X08MM)
pins: 1, 2

## 56.2K 0603 0.1%
designator R?, comment 56.2K
RES 0603 56K2 0.1% 0.1W 25PPMK; PartNumber: ERA3AEB5622V; Manufacturer: Panasonic; Voltage: 75 V; Temperature Coefficient: ± 25 ppm/°C; Marking: 73C; Power Dissipation: 100 mW; ItemType: Resistor; ItemSubType: 0603; Note: Замена для RT0603FRE0756K2L; Value: 56.2K; Tolerance: ± 0.1 %; Type: Thin Film; Mounting: SMD
footprint R0603HP_73C (SMD060316X08MM)
pins: 1, 2

## 56K 0603 0.1%
designator R?, comment 56K
RES 0603 56K 0.1% 0.1W 25PPMK; PartNumber: ERA3AEB563V; Manufacturer: Panasonic; Voltage: 75 V; Temperature Coefficient: ± 25 ppm/°C; Marking: 563; Power Dissipation: 100 mW; ItemType: Resistor; ItemSubType: 0603; Note: Замена для RT0603FRE0756KL; Value: 56K; Tolerance: ± 0.1 %; Type: Thin Film; Mounting: SMD
footprint R0603HP_563 (SMD060316X08MM)
pins: 1, 2

## 60.4K 0603 0.1%
designator R?, comment 60.4K
RES 0603 60K4 0.1% 0.1W 25PPMK; PartNumber: ERA3AEB6042V; Manufacturer: Panasonic; AltManufacturer1: Vishay; Voltage: 75 V; Temperature Coefficient: ± 25 ppm/°C; Marking: 76C; Alternative1: TNPW060360K4BEEA; Power Dissipation: 100 mW; ItemType: Resistor; ItemSubType: 0603; Note: Замена для RT0603FRE0760K4L; Value: 60.4K; Tolerance: ± 0.1 %; Type: Thin Film; Mounting: SMD
footprint R0603HP_76C (SMD060316X08MM)
pins: 1, 2

## 66.5R 0603 0.1%
designator R?, comment 66.5R
RES 0603 66R5 0.1% 0.1W 25PPMK; PartNumber: ERA3AEB66R5V; Manufacturer: Panasonic; Voltage: 75 V; Temperature Coefficient: ± 25 ppm/°C; Marking: 80X; Power Dissipation: 100 mW; ItemType: Resistor; ItemSubType: 0603; Note: Замена для RT0603FRE0766R5L; Value: 66.5R; Tolerance: ± 0.1 %; Type: Thin Film; Mounting: SMD
footprint R0603HP_80X (SMD060316X08MM)
pins: 1, 2

## 68K 0603 0.1%
designator R?, comment 68K
RES 0603 68K 0.1% 0.1W 25PPMK; PartNumber: ERA3AEB683V; Manufacturer: Panasonic; Voltage: 75 V; Temperature Coefficient: ± 25 ppm/°C; Marking: 683; Power Dissipation: 100 mW; ItemType: Resistor; ItemSubType: 0603; Note: Замена для RT0603FRE0768KL; Value: 68K; Tolerance: ± 0.1 %; Type: Thin Film; Mounting: SMD
footprint R0603HP_683 (SMD060316X08MM)
pins: 1, 2

## 68R 0402 1%
designator R?, comment 68R
RES 0402 68R 1% 0.0625W 25PPMK; PartNumber: RT0402FRE0768RL; Manufacturer: Yageo; Voltage: 50 V; Temperature Coefficient: ± 50 ppm/°C; Power Dissipation: 62.5 mW; ItemType: Resistor; ItemSubType: 0402; Value: 68R; Tolerance: ± 1 %; Type: Thin Film; Mounting: SMD
footprint R0402HP (SMD040210X05MM)
footprint R0402HP_0.8 (SMD040210X05MM for BGA with 0.8mm pitch)
pins: 1, 2

## 68R 0603 0.1%
designator R?, comment 68R
RES 0603 68R 0.1% 0.1W 25PPMK; PartNumber: ERA3AEB680V; Manufacturer: Panasonic; Voltage: 75 V; Temperature Coefficient: ± 25 ppm/°C; Marking: 680; Power Dissipation: 100 mW; ItemType: Resistor; ItemSubType: 0603; Note: Замена для RT0603FRE0768RL; Value: 68R; Tolerance: ± 0.1 %; Type: Thin Film; Mounting: SMD
footprint R0603HP_680 (SMD060316X08MM)
pins: 1, 2

## 69.8K 0603 0.1%
designator R?, comment 69.8K
RES 0603 69K8 0.1% 0.1W 25PPMK; PartNumber: ERA3AEB6982V; Manufacturer: Panasonic; AltManufacturer1: Vishay; Voltage: 75 V; Temperature Coefficient: ± 25 ppm/°C; Marking: 82C; Alternative1: TNPW060369K8BEEA; Power Dissipation: 100 mW; ItemType: Resistor; ItemSubType: 0603; Note: Замена для RT0603FRE0769K8L; Value: 69.8K; Tolerance: ± 0.1 %; Type: Thin Film; Mounting: SMD
footprint R0603HP_82C (SMD060316X08MM)
pins: 1, 2

## 75K 0603 0.1%
designator R?, comment 75K
RES 0603 75K 0.1% 0.1W 25PPMK; PartNumber: ERA3AEB753V; Manufacturer: Panasonic; Voltage: 75 V; Temperature Coefficient: ± 25 ppm/°C; Marking: 85C; Power Dissipation: 100 mW; ItemType: Resistor; ItemSubType: 0603; Note: Замена для RT0603FRE0775KL; Value: 75K; Tolerance: ± 0.1 %; Type: Thin Film; Mounting: SMD
footprint R0603HP_85C (SMD060316X08MM)
pins: 1, 2

## 75R 0402 1%
designator R?, comment 75R
RES 0402 75R 1% 0.0625W 25PPMK; PartNumber: RT0402FRE0775RL; Manufacturer: Yageo; Voltage: 50 V; Temperature Coefficient: ± 50 ppm/°C; Power Dissipation: 62.5 mW; ItemType: Resistor; ItemSubType: 0402; Value: 75R; Tolerance: ± 1 %; Type: Thin Film; Mounting: SMD
footprint R0402HP (SMD040210X05MM)
footprint R0402HP_0.8 (SMD040210X05MM for BGA with 0.8mm pitch)
pins: 1, 2

## 80.6R 0402 1%
designator R?, comment 80.6R
RES 0402 80R6 1% 0.0625W 25PPMK; PartNumber: RT0402FRE0780R6L; Manufacturer: Yageo; Voltage: 50 V; Temperature Coefficient: ± 50 ppm/°C; Power Dissipation: 62.5 mW; ItemType: Resistor; ItemSubType: 0402; Value: 80.6R; Tolerance: ± 1 %; Type: Thin Film; Mounting: SMD
footprint R0402HP (SMD040210X05MM)
footprint R0402HP_0.8 (SMD040210X05MM for BGA with 0.8mm pitch)
pins: 1, 2

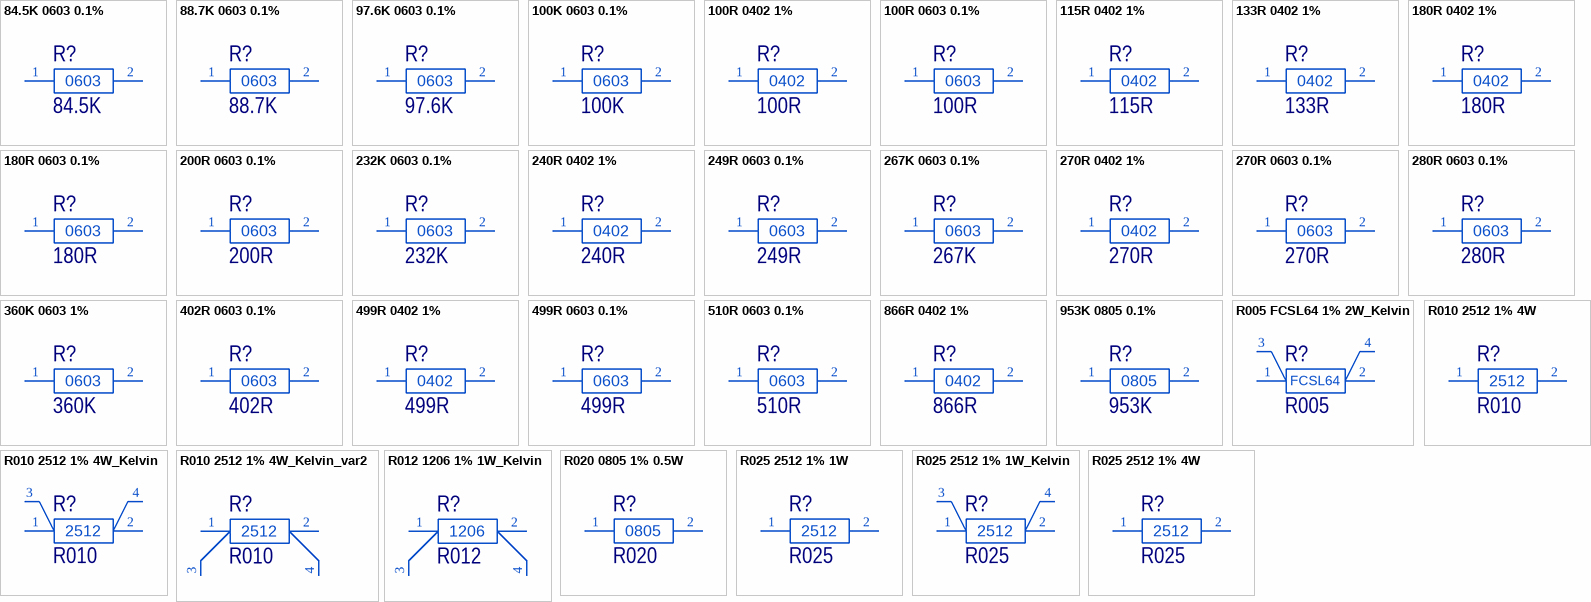
[diagram p2: symbols 84.5K 0603 0.1% to R025 2512 1% 4W]

## 84.5K 0603 0.1%
designator R?, comment 84.5K
RES 0603 84K5 0.1% 0.1W 25PPMK; PartNumber: ERA3AEB8452V; Manufacturer: Panasonic; Voltage: 75 V; Temperature Coefficient: ± 25 ppm/°C; Marking: 90C; Power Dissipation: 100 mW; ItemType: Resistor; ItemSubType: 0603; Note: Замена для RT0603FRE0784K5L; Value: 84.5K; Tolerance: ± 0.1 %; Type: Thin Film; Mounting: SMD
footprint R0603HP_90C (SMD060316X08MM)
pins: 1, 2

## 88.7K 0603 0.1%
designator R?, comment 88.7K
RES 0603 88K7 0.1% 0.1W 25PPMK; PartNumber: ERA3AEB8872V; Manufacturer: Panasonic; Voltage: 75 V; Temperature Coefficient: ± 25 ppm/°C; Marking: 92C; Power Dissipation: 100 mW; ItemType: Resistor; ItemSubType: 0603; Note: Замена для RT0603FRE0788K7L; Value: 88.7K; Tolerance: ± 0.1 %; Type: Thin Film; Mounting: SMD
footprint R0603HP_92C (SMD060316X08MM)
pins: 1, 2

## 97.6K 0603 0.1%
designator R?, comment 97.6K
RES 0603 97K6 0.1% 0.1W 25PPMK; PartNumber: ERA3AEB9762V; Manufacturer: Panasonic; Voltage: 75 V; Temperature Coefficient: ± 25 ppm/°C; Marking: 96C; Power Dissipation: 100 mW; ItemType: Resistor; ItemSubType: 0603; Note: Замена для RT0603FRE0797K6L; Value: 97.6K; Tolerance: ± 0.1 %; Type: Thin Film; Mounting: SMD
footprint R0603HP_96C (SMD060316X08MM)
pins: 1, 2

## 100K 0603 0.1%
designator R?, comment 100K
RES 0603 100K 0.1% 0.1W 25PPMK; PartNumber: ERA3AEB104V; Manufacturer: Panasonic; Voltage: 75 V; Temperature Coefficient: ± 25 ppm/°C; Marking: 01D; Power Dissipation: 100 mW; ItemType: Resistor; ItemSubType: 0603; Note: Замена для RT0603FRE07100KL; Value: 100K; Tolerance: ± 0.1 %; Type: Thin Film; Mounting: SMD
footprint R0603HP_01D (SMD060316X08MM)
pins: 1, 2

## 100R 0402 1%
designator R?, comment 100R
RES 0402 100R 1% 0.0625W 25PPMK; PartNumber: RT0402FRE07100RL; Manufacturer: Yageo; Voltage: 50 V; Temperature Coefficient: ± 50 ppm/°C; Power Dissipation: 62.5 mW; ItemType: Resistor; ItemSubType: 0402; Value: 100R; Tolerance: ± 1 %; Type: Thin Film; Mounting: SMD
footprint R0402HP (SMD040210X05MM)
footprint R0402HP_0.8 (SMD040210X05MM for BGA with 0.8mm pitch)
pins: 1, 2

## 100R 0603 0.1%
designator R?, comment 100R
RES 0603 100R 0.1% 0.1W 25PPMK; PartNumber: ERA3AEB101V; Manufacturer: Panasonic; Voltage: 75 V; Temperature Coefficient: ± 25 ppm/°C; Marking: 01A; Power Dissipation: 100 mW; ItemType: Resistor; ItemSubType: 0603; Note: Замена для RT0402FRE07100RL; Value: 100R; Tolerance: ± 0.1 %; Type: Thin Film; Mounting: SMD
footprint R0603HP_01A (SMD060316X08MM)
pins: 1, 2

## 115R 0402 1%
designator R?, comment 115R
RES 0402 115R 1% 0.0625W 25PPMK; PartNumber: RT0402FRE07115RL; Manufacturer: Yageo; Voltage: 50 V; Temperature Coefficient: ± 50 ppm/°C; Power Dissipation: 62.5 mW; ItemType: Resistor; ItemSubType: 0402; Value: 115R; Tolerance: ± 1 %; Type: Thin Film; Mounting: SMD
footprint R0402HP (SMD040210X05MM)
footprint R0402HP_0.8 (SMD040210X05MM for BGA with 0.8mm pitch)
pins: 1, 2

## 133R 0402 1%
designator R?, comment 133R
RES 0402 133R 1% 0.0625W 25PPMK; PartNumber: RT0402FRE07133RL; Manufacturer: Yageo; Voltage: 50 V; Temperature Coefficient: ± 50 ppm/°C; Power Dissipation: 62.5 mW; ItemType: Resistor; ItemSubType: 0402; Value: 133R; Tolerance: ± 1 %; Type: Thin Film; Mounting: SMD
footprint R0402HP (SMD040210X05MM)
footprint R0402HP_0.8 (SMD040210X05MM for BGA with 0.8mm pitch)
pins: 1, 2

## 180R 0402 1%
designator R?, comment 180R
RES 0402 180R 1% 0.0625W 25PPMK; PartNumber: RT0402FRE07180RL; Manufacturer: Yageo; Voltage: 50 V; Temperature Coefficient: ± 50 ppm/°C; Power Dissipation: 62.5 mW; ItemType: Resistor; ItemSubType: 0402; Value: 180R; Tolerance: ± 1 %; Type: Thin Film; Mounting: SMD
footprint R0402HP (SMD040210X05MM)
footprint R0402HP_0.8 (SMD040210X05MM for BGA with 0.8mm pitch)
pins: 1, 2

## 180R 0603 0.1%
designator R?, comment 180R
RES 0603 180R 0.1% 0.1W 25PPMK; PartNumber: ERA3AEB181V; Manufacturer: Panasonic; Voltage: 75 V; Temperature Coefficient: ± 25 ppm/°C; Marking: 181; Power Dissipation: 100 mW; ItemType: Resistor; ItemSubType: 0603; Note: Замена для RT0603FRE07180RL; Value: 180R; Tolerance: ± 0.1 %; Type: Thin Film; Mounting: SMD
footprint R0603HP_181 (SMD060316X08MM)
pins: 1, 2

## 200R 0603 0.1%
designator R?, comment 200R
RES 0603 200R 0.1% 0.1W 25PPMK; PartNumber: ERA3AEB201V; Manufacturer: Panasonic; Voltage: 75 V; Temperature Coefficient: ± 25 ppm/°C; Marking: 30A; Power Dissipation: 100 mW; ItemType: Resistor; ItemSubType: 0603; Note: Замена для RT0603FRE07200RL; Value: 200R; Tolerance: ± 0.1 %; Type: Thin Film; Mounting: SMD
footprint R0603HP_30A (SMD060316X08MM)
pins: 1, 2

## 232K 0603 0.1%
designator R?, comment 232K
RES 0603 232K 0.1% 0.1W 25PPMK; PartNumber: ERA3AEB2323V; Manufacturer: Panasonic; Voltage: 75 V; Temperature Coefficient: ± 25 ppm/°C; Marking: 36D; Power Dissipation: 100 mW; ItemType: Resistor; ItemSubType: 0603; Note: Замена для RT0603FRE07232KL; Value: 232K; Tolerance: ± 0.1 %; Type: Thin Film; Mounting: SMD
footprint R0603HP_36D (SMD060316X08MM)
pins: 1, 2

## 240R 0402 1%
designator R?, comment 240R
RES 0402 240R 1% 0.0625W 25PPMK; PartNumber: RT0402FRE07240RL; Manufacturer: Yageo; Voltage: 50 V; Temperature Coefficient: ± 50 ppm/°C; Power Dissipation: 62.5 mW; ItemType: Resistor; ItemSubType: 0402; Value: 240R; Tolerance: ± 1 %; Type: Thin Film; Mounting: SMD
footprint R0402HP (SMD040210X05MM)
footprint R0402HP_0.8 (SMD040210X05MM for BGA with 0.8mm pitch)
pins: 1, 2

## 249R 0603 0.1%
designator R?, comment 249R
RES 0603 249R 0.1% 0.1W 25PPMK; PartNumber: ERA3AEB2490V; Manufacturer: Panasonic; Voltage: 75 V; Temperature Coefficient: ± 25 ppm/°C; Marking: 39A; Power Dissipation: 100 mW; ItemType: Resistor; ItemSubType: 0603; Note: Замена для RT0603FRE07249RL; Value: 249R; Tolerance: ± 0.1 %; Type: Thin Film; Mounting: SMD
footprint R0603HP_39A (SMD060316X08MM)
pins: 1, 2

## 267K 0603 0.1%
designator R?, comment 267K
RES 0603 267K 0.1% 0.1W 25PPMK; PartNumber: ERA3AEB2673V; Manufacturer: Panasonic; Voltage: 75 V; Temperature Coefficient: ± 25 ppm/°C; Marking: 42D; Power Dissipation: 100 mW; ItemType: Resistor; ItemSubType: 0603; Note: Замена для RT0603FRE07267KL; Value: 267K; Tolerance: ± 0.1 %; Type: Thin Film; Mounting: SMD
footprint R0603HP_42D (SMD060316X08MM)
pins: 1, 2

## 270R 0402 1%
designator R?, comment 270R
RES 0402 270R 1% 0.0625W 25PPMK; PartNumber: RT0402FRE07270RL; Manufacturer: Yageo; Voltage: 50 V; Temperature Coefficient: ± 50 ppm/°C; Power Dissipation: 62.5 mW; ItemType: Resistor; ItemSubType: 0402; Value: 270R; Tolerance: ± 1 %; Type: Thin Film; Mounting: SMD
footprint R0402HP (SMD040210X05MM)
footprint R0402HP_0.8 (SMD040210X05MM for BGA with 0.8mm pitch)
pins: 1, 2

## 270R 0603 0.1%
designator R?, comment 270R
RES 0603 270R 0.1% 0.1W 25PPMK; PartNumber: ERA3AEB271V; Manufacturer: Panasonic; Voltage: 75 V; Temperature Coefficient: ± 25 ppm/°C; Marking: 271; Power Dissipation: 100 mW; ItemType: Resistor; ItemSubType: 0603; Note: Замена для RT0603FRE07270RL; Value: 270R; Tolerance: ± 0.1 %; Type: Thin Film; Mounting: SMD
footprint R0603HP_271 (SMD060316X08MM)
pins: 1, 2

## 280R 0603 0.1%
designator R?, comment 280R
RES 0603 280R 0.1% 0.1W 25PPMK; PartNumber: ERA3AEB2800V; Manufacturer: Panasonic; Voltage: 75 V; Temperature Coefficient: ± 25 ppm/°C; Marking: 44A; Power Dissipation: 100 mW; ItemType: Resistor; ItemSubType: 0603; Note: Замена для RT0603FRE07280RL; Value: 280R; Tolerance: ± 0.1 %; Type: Thin Film; Mounting: SMD
footprint R0603HP_44A (SMD060316X08MM)
pins: 1, 2

## 360K 0603 1%
designator R?, comment 360K
RES 0603 360K 1% 0.1W 25PPMK; PartNumber: RT0603FRE07360KL; Manufacturer: Yageo; Voltage: 75 V; Temperature Coefficient: ± 50 ppm/°C; Marking: 364; Power Dissipation: 100 mW; ItemType: Resistor; ItemSubType: 0603; Value: 360K; Tolerance: ± 1 %; Type: Thin Film; Mounting: SMD
footprint R0603HP_364 (SMD060316X08MM)
pins: 1, 2

## 402R 0603 0.1%
designator R?, comment 402R
RES 0603 402R 0.1% 0.1W 25PPMK; PartNumber: ERA3AEB4020V; Manufacturer: Panasonic; Voltage: 75 V; Temperature Coefficient: ± 25 ppm/°C; Marking: 59A; Power Dissipation: 100 mW; ItemType: Resistor; ItemSubType: 0603; Note: Замена для RT0603FRE07402RL; Value: 402R; Tolerance: ± 0.1 %; Type: Thin Film; Mounting: SMD
footprint R0603HP_59A (SMD060316X08MM)
pins: 1, 2

## 499R 0402 1%
designator R?, comment 499R
RES 0402 499R 1% 0.0625W 25PPMK; PartNumber: RT0402FRE07499RL; Manufacturer: Yageo; Voltage: 50 V; Temperature Coefficient: ± 50 ppm/°C; Power Dissipation: 62.5 mW; ItemType: Resistor; ItemSubType: 0402; Value: 499R; Tolerance: ± 1 %; Type: Thin Film; Mounting: SMD
footprint R0402HP (SMD040210X05MM)
footprint R0402HP_0.8 (SMD040210X05MM for BGA with 0.8mm pitch)
pins: 1, 2

## 499R 0603 0.1%
designator R?, comment 499R
RES 0603 499R 0.1% 0.1W 25PPMK; PartNumber: ERA3AEB4990V; Manufacturer: Panasonic; Voltage: 75 V; Temperature Coefficient: ± 25 ppm/°C; Marking: 68A; Power Dissipation: 100 mW; ItemType: Resistor; ItemSubType: 0603; Note: Замена для RT0402FRE07499RL; Value: 499R; Tolerance: ± 0.1 %; Type: Thin Film; Mounting: SMD
footprint R0603HP_68A (SMD060316X08MM)
pins: 1, 2

## 510R 0603 0.1%
designator R?, comment 510R
RES 0603 510R 0.1% 0.1W 25PPMK; PartNumber: ERA3AEB511V; Manufacturer: Panasonic; Voltage: 75 V; Temperature Coefficient: ± 25 ppm/°C; Marking: 511; Power Dissipation: 100 mW; ItemType: Resistor; ItemSubType: 0603; Note: Замена для RT0603FRE07510RL; Value: 510R; Tolerance: ± 0.1 %; Type: Thin Film; Mounting: SMD
footprint R0603HP_511 (SMD060316X08MM)
pins: 1, 2

## 866R 0402 1%
designator R?, comment 866R
RES 0402 866R 1% 0.0625W 25PPMK; PartNumber: RT0402FRE07866RL; Manufacturer: Yageo; Voltage: 50 V; Temperature Coefficient: ± 50 ppm/°C; Power Dissipation: 62.5 mW; ItemType: Resistor; ItemSubType: 0402; Value: 866R; Tolerance: ± 1 %; Type: Thin Film; Mounting: SMD
footprint R0402HP (SMD040210X05MM)
footprint R0402HP_0.8 (SMD040210X05MM for BGA with 0.8mm pitch)
pins: 1, 2

## 953K 0805 0.1%
designator R?, comment 953K
RES 0805 953K 0.1% 0.125W 25PPMK; PartNumber: ERA-6AEB9533V; Manufacturer: Panasonic; Voltage: 75 V; Temperature Coefficient: ± 25 ppm/°C; Marking: 95D or 9533; Power Dissipation: 125 mW; ItemType: Resistor; ItemSubType: 0805; Value: 953K; Tolerance: ± 0.1 %; Type: Thin Film; Mounting: SMD
footprint R0805HP_95D (Resistor 0805)
pins: 1, 2

## R005 FCSL64 1% 2W_Kelvin
designator R?, comment R005
Metal Foil Current Sense; PartNumber: FCSL64R005FER; Manufacturer: Ohmite; Tolerance: ± 1 %; Temperature Coefficient: ± 50 ppm/°C; Power Dissipation: 2 W; ItemType: Resistor; ItemSubType: Current Sensor; Value: R005; Marking: R005; Type: Current Sensor; Mounting: SMD
footprint FCSL64R005FER_KELVIN (Shunt FCSL64 seriess)
pins: 1, 2, 3, 4
text: FCSL64

## R010 2512 1% 4W
designator R?, comment R010
High precision current sensor resistor 2512; PartNumber: VMS-R010-1.0-U; Manufacturer: ISAB; Tolerance: ± 1 %; Temperature Coefficient: ± 20 ppm/°C; Power Dissipation: 4 W; Value: R010; Marking: R010; Type: Current Sensor; ItemType: Resistor; ItemSubType: Current Sensor; Mounting: SMD
footprint R2512_GREEN_R010 (Resistor 2512, L = 6.35mm, W = 3.18mm)
pins: 1, 2
text: 2512

## R010 2512 1% 4W_Kelvin
designator R?, comment R010
High precision current sensor resistor 2512; PartNumber: VMS-R010-1.0-U; Manufacturer: ISAB; Tolerance: ± 1 %; Temperature Coefficient: ± 20 ppm/°C; Power Dissipation: 4 W; Value: R010; Marking: R010; Type: Current Sensor; ItemType: Resistor; ItemSubType: Current Sensor; Mounting: SMD
footprint R2512_GREEN_R010_KELVIN (Resistor 2512, L = 6.35mm, W = 3.18mm)
footprint R2512_GREEN_R010_KELVIN_MIR (Resistor 2512, L = 6.35mm, W = 3.18mm)
pins: 1, 2, 3, 4
text: 2512

## R010 2512 1% 4W_Kelvin_var2
designator R?, comment R010
High precision current sensor resistor 2512; PartNumber: VMS-R010-1.0-U; Manufacturer: ISAB; Tolerance: ± 1 %; Temperature Coefficient: ± 20 ppm/°C; Power Dissipation: 4 W; Value: R010; Marking: R010; Type: Current Sensor; ItemType: Resistor; ItemSubType: Current Sensor; Mounting: SMD
footprint R2512_GREEN_R010_KELVIN (Resistor 2512, L = 6.35mm, W = 3.18mm)
footprint R2512_GREEN_R010_KELVIN_MIR (Resistor 2512, L = 6.35mm, W = 3.18mm)
pins: 1, 2, 3, 4
text: 2512

## R012 1206 1% 1W_Kelvin
designator R?, comment R012
High precision current sensor resistor 1206; PartNumber: MCLRP06JTETR012; Manufacturer: Multicomp; Tolerance: ± 1 %; Temperature Coefficient: ± 100 ppm/°C; Power Dissipation: 1 W; Value: R012; Marking: R012; Type: Current Sensor; ItemType: Resistor; ItemSubType: Current Sensor; Mounting: SMD
footprint R1206_MCLRP06_KELVIN (Shunt 1206 MCLRP Series 12 mOhm)
footprint R1206_MCLRP06_KELVIN_MIR (Shunt 1206 MCLRP Series 12 mOhm)
pins: 1, 2, 3, 4
text: 1206

## R020 0805 1% 0.5W
designator R?, comment R020
High precision current sensor resistor 0805; PartNumber: PE0805FRE470R02Z; Manufacturer: Yageo; Tolerance: ± 1 %; Temperature Coefficient: ± 50 ppm/°C; Alternative1: PA0805FRE470R02L; Power Dissipation: 0.5 W; Value: R020; Marking: R020; AltManufacturer1: Yageo; Type: Current Sensor; ItemType: Resistor; ItemSubType: Current Sensor; Mounting: SMD
footprint R0805_BLACK_R020 (Resistor 0805)
pins: 1, 2
text: 0805

## R025 2512 1% 1W
designator R?, comment R025
High precision current sensor resistor 2512; PartNumber: PE2512FKE7W0R025L; Manufacturer: Yageo; Tolerance: ± 1 %; Temperature Coefficient: ± 50 ppm/°C; Power Dissipation: 1 W; Value: R025; Marking: R025; Type: Current Sensor; ItemType: Resistor; ItemSubType: Current Sensor; Mounting: SMD
footprint R2512_BLACK_R025 (Resistor 2512, L = 6.35mm, W = 3.18mm)
pins: 1, 2
text: 2512

## R025 2512 1% 1W_Kelvin
designator R?, comment R025
High precision current sensor resistor 2512; PartNumber: PE2512FKE7W0R025L; Manufacturer: Yageo; Tolerance: ± 1 %; Temperature Coefficient: ± 50 ppm/°C; Power Dissipation: 1 W; Value: R025; Marking: R025; Type: Current Sensor; ItemType: Resistor; ItemSubType: Current Sensor; Mounting: SMD
footprint R2512_BLACK_R025_KELVIN (Resistor 2512, L = 6.35mm, W = 3.18mm)
pins: 1, 2, 3, 4
text: 2512

## R025 2512 1% 4W
designator R?, comment R025
High precision current sensor resistor 2512; PartNumber: VMS-R025-1.0-U; Manufacturer: ISAB; Tolerance: ± 1 %; Temperature Coefficient: ± 20 ppm/°C; Power Dissipation: 4 W; Value: R025; Marking: R025; Type: Current Sensor; ItemType: Resistor; ItemSubType: Current Sensor; Mounting: SMD
footprint R2512_GREEN_R025 (Resistor 2512, L = 6.35mm, W = 3.18mm)
pins: 1, 2
text: 2512